# Altium schematic symbol library CAN.SchLib: 5 symbols
Pins are listed as number, name and electrical type; pins without a type are passive.

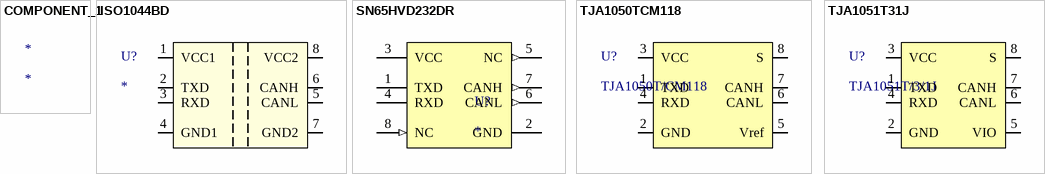
[diagram p0: symbols COMPONENT_1 to TJA1051T31J]

## COMPONENT_1
designator *

## ISO1044BD
designator U?
1/1 Transceiver, Isolated Half CANbus 8-SOIC; Mfr_Name: Texas Instruments; RefDes: RefDes; Type: Type; Supplier Part Number 1: 296-ISO1044BD-ND
footprint SOIC-8 (8-Lead Plastic Small Outline, 0.15in pitch,  LTC DWG # 05-08-1610 Rev G)
pins: 1 VCC1, 2 TXD, 3 RXD, 4 GND1, 5 CANL, 6 CANH, 7 GND2, 8 VCC2

## SN65HVD232DR
designator U?
3.3 V CAN Transceiver with Standby Mode; Manufacturer Part Number 1: SN65HVD232DR; MF: Texas Instruments; Availability: In Stock; SnapEDA_Link: https://www.snapeda.com/parts/SN65HVD230DR/Texas+Instruments/view-part/?ref=snap; Price: None; Check_prices: https://www.snapeda.com/parts/SN65HVD230DR/Texas+Instruments/view-part/?ref=eda; Package: SOIC-8 Texas Instruments; Value: *; Purchase-URL: https://pricing.snapeda.com/search/part/SN65HVD230DR/?ref=eda; Supplier Part Number 1: 296-26344-1-ND
footprint SOIC-8 (8-Lead Plastic Small Outline, 0.15in pitch,  LTC DWG # 05-08-1610 Rev G)
pins: 1 TXD, 2 GND (power), 3 VCC (power), 4 RXD, 5 NC (out), 6 CANL (out), 7 CANH (out), 8 NC (in)

## TJA1050TCM118
designator U?, comment TJA1050T/CM118
No Description Available; Mfr_Name: NXP; Copyright: Copyright (C) 2024 Ultra Librarian. All rights reserved.; Manufacturer_Part_Number: TJA1050T/CM118; Digi-Key_Part_Number_1: 2156-TJA1050T/CM,118-ND; Digi-Key_Part_Number_2: 2156-TJA1050T/CM118-ND; Digi-Key_Part_Number_3: 568-10292-1-ND; Digi-Key_Part_Number_4: 568-10292-2-ND; Digi-Key_Part_Number_5: 568-10292-6-ND; RefDes: RefDes; Type: DEV
footprint IC8_TJA1050TCM118_NXP
pins: 1 TXD, 2 GND (power), 3 VCC (power), 4 RXD, 5 Vref (power), 6 CANL, 7 CANH, 8 S

## TJA1051T31J
designator U?, comment TJA1051T/3/1J
No Description Available; Mfr_Name: NXP; Copyright: Copyright (C) 2024 Ultra Librarian. All rights reserved.; Manufacturer_Part_Number: TJA1051T/3/1J; RefDes: RefDes; Type: DEV
footprint SO8_SOT96-1_NXP
pins: 1 TXD, 2 GND (power), 3 VCC (power), 4 RXD, 5 VIO (power), 6 CANL, 7 CANH, 8 S